# Altium schematic symbol library C5SMF-RJE-CT0W0BB2.SchLib: 1 symbol
Pins are listed as number, name and electrical type; pins without a type are passive.

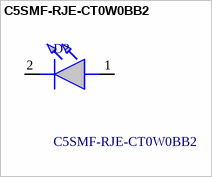
[diagram p0: symbol C5SMF-RJE-CT0W0BB2]

## C5SMF-RJE-CT0W0BB2
designator D?
Standard LEDs - Through Hole Red Oval LED; Manufacturer_Name: CREE LED; Geometry.Height: 8.75mm; Mouser Part Number: 941-C5SMFRJECT0W0BB2; Mouser Price/Stock: https://www.mouser.co.uk/ProductDetail/Cree-LED/C5SMF-RJE-CT0W0BB2?qs=1sbE9T7hb3bz%2FXMFB8lsHw%3D%3D; Manufacturer_Part_Number: C5SMF-RJE-CT0W0BB2; Datasheet Link: *
footprint C5SMFRJECT0W0BB2
pins: 1 A, 2 K